# EAGLE library part 5569-14 (library con-molex-5569)
4.20mm Pitch Mini-Fit Jr.™ 14 pin Source: http://www.molex.com/pdm_docs/sd/039307025_sd.pdf
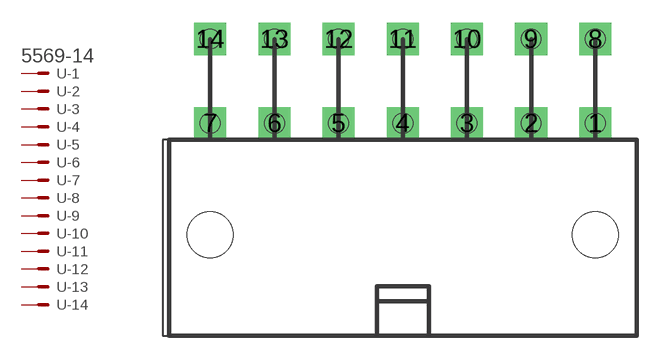
[diagram p7: symbol with the pads of 5569-14; footprint 5569-14]

Designator prefix -; gates -1=MV -2=M -3=M -4=M -5=M -6=M -7=M -8=M -9=M -10=M -11=M -12=M -13=M -14=M

## 5569-14  [5569-14]
1  -1:>NAME$
2  -2:>NAME$
3  -3:>NAME$
4  -4:>NAME$
5  -5:>NAME$
6  -6:>NAME$
7  -7:>NAME$
8  -8:>NAME$
9  -9:>NAME$
10  -10:>NAME$
11  -11:>NAME$
12  -12:>NAME$
13  -13:>NAME$
14  -14:>NAME$

## Footprint 5569-14 (pad centres in mm)
4.20mm Pitch Mini-Fit Jr.™ 14 pin Source: http://www.molex.com/pdm_docs/sd/039307025_sd.pdf
drill 1.4 square: 1 12.6,-2.75; 2 8.4,-2.75; 3 4.2,-2.75; 4 0,-2.75; 5 -4.2,-2.75; 6 -8.4,-2.75; 7 -12.6,-2.75; 8 12.6,2.75; 9 8.4,2.75; 10 4.2,2.75; 11 0,2.75; 12 -4.2,2.75; 13 -8.4,2.75; 14 -12.6,2.75
hole 3 at -12.6,-10.05
hole 3 at 12.6,-10.05
hole 1.3 at -8.4,2.75
hole 1.3 at -8.4,-2.75
hole 1.3 at -4.2,-2.75
hole 1.3 at 0,-2.75
hole 1.3 at 4.2,-2.75
hole 1.3 at 8.4,-2.75
hole 1.3 at -4.2,2.75
hole 1.3 at 0,2.75
hole 1.3 at 4.2,2.75
hole 1.3 at 8.4,2.75
hole 1.3 at 12.6,-2.75
hole 1.3 at 12.6,2.75
hole 1.3 at -12.6,-2.75
hole 1.3 at -12.6,2.75